# Altium schematic symbol library SCH - MCU - STM32 - ST MICROELECTRONICS STM32F051R8HX UFBGA64.SchLib: 1 symbol
Pins are listed as number, name and electrical type; pins without a type are passive.

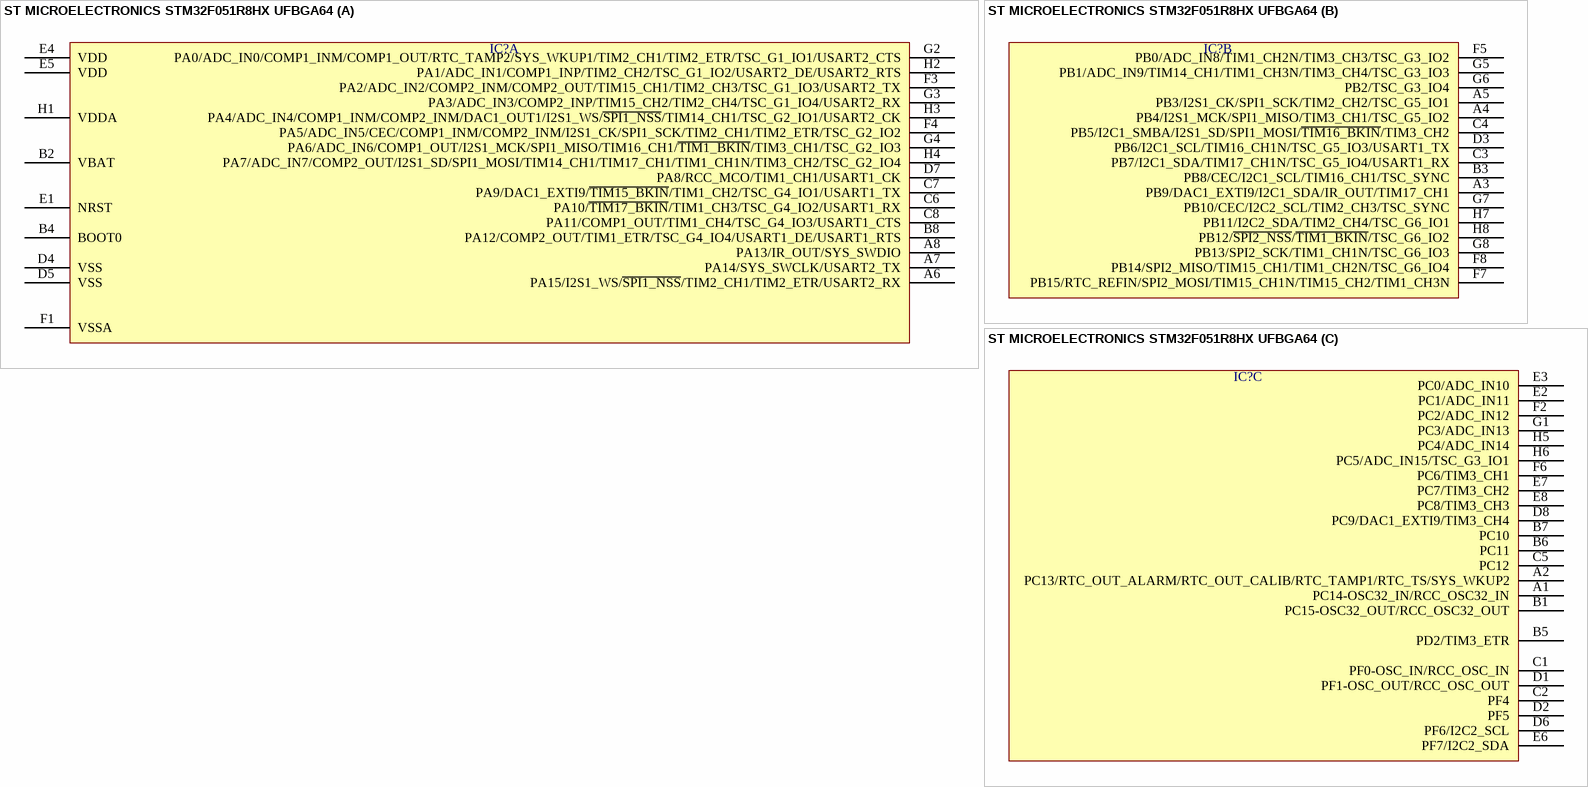
[diagram p0: symbol ST MICROELECTRONICS STM32F051R8HX UFBGA64]

## ST MICROELECTRONICS STM32F051R8HX UFBGA64
designator IC?  (value not drawn)
part A pins: A6 PA15/I2S1_WS/~{SPI1_NSS}/TIM2_CH1/TIM2_ETR/USART2_RX, A7 PA14/SYS_SWCLK/USART2_TX, A8 PA13/IR_OUT/SYS_SWDIO, B2 VBAT, B4 BOOT0, B8 PA12/COMP2_OUT/TIM1_ETR/TSC_G4_IO4/USART1_DE/USART1_RTS, C6 PA10/~{TIM17_BKIN}/TIM1_CH3/TSC_G4_IO2/USART1_RX, C7 PA9/DAC1_EXTI9/~{TIM15_BKIN}/TIM1_CH2/TSC_G4_IO1/USART1_TX, C8 PA11/COMP1_OUT/TIM1_CH4/TSC_G4_IO3/USART1_CTS, D4 VSS, D5 VSS, D7 PA8/RCC_MCO/TIM1_CH1/USART1_CK, E1 NRST, E4 VDD, E5 VDD, F1 VSSA, F3 PA2/ADC_IN2/COMP2_INM/COMP2_OUT/TIM15_CH1/TIM2_CH3/TSC_G1_IO3/USART2_TX, F4 PA5/ADC_IN5/CEC/COMP1_INM/COMP2_INM/I2S1_CK/SPI1_SCK/TIM2_CH1/TIM2_ETR/TSC_G2_IO2, G2 PA0/ADC_IN0/COMP1_INM/COMP1_OUT/RTC_TAMP2/SYS_WKUP1/TIM2_CH1/TIM2_ETR/TSC_G1_IO1/USART2_CTS, G3 PA3/ADC_IN3/COMP2_INP/TIM15_CH2/TIM2_CH4/TSC_G1_IO4/USART2_RX, G4 PA6/ADC_IN6/COMP1_OUT/I2S1_MCK/SPI1_MISO/TIM16_CH1/~{TIM1_BKIN}/TIM3_CH1/TSC_G2_IO3, H1 VDDA, H2 PA1/ADC_IN1/COMP1_INP/TIM2_CH2/TSC_G1_IO2/USART2_DE/USART2_RTS, H3 PA4/ADC_IN4/COMP1_INM/COMP2_INM/DAC1_OUT1/I2S1_WS/~{SPI1_NSS}/TIM14_CH1/TSC_G2_IO1/USART2_CK, H4 PA7/ADC_IN7/COMP2_OUT/I2S1_SD/SPI1_MOSI/TIM14_CH1/TIM17_CH1/TIM1_CH1N/TIM3_CH2/TSC_G2_IO4
part B pins: A3 PB9/DAC1_EXTI9/I2C1_SDA/IR_OUT/TIM17_CH1, A4 PB4/I2S1_MCK/SPI1_MISO/TIM3_CH1/TSC_G5_IO2, A5 PB3/I2S1_CK/SPI1_SCK/TIM2_CH2/TSC_G5_IO1, B3 PB8/CEC/I2C1_SCL/TIM16_CH1/TSC_SYNC, C3 PB7/I2C1_SDA/TIM17_CH1N/TSC_G5_IO4/USART1_RX, C4 PB5/I2C1_SMBA/I2S1_SD/SPI1_MOSI/~{TIM16_BKIN}/TIM3_CH2, D3 PB6/I2C1_SCL/TIM16_CH1N/TSC_G5_IO3/USART1_TX, F5 PB0/ADC_IN8/TIM1_CH2N/TIM3_CH3/TSC_G3_IO2, F7 PB15/RTC_REFIN/SPI2_MOSI/TIM15_CH1N/TIM15_CH2/TIM1_CH3N, F8 PB14/SPI2_MISO/TIM15_CH1/TIM1_CH2N/TSC_G6_IO4, G5 PB1/ADC_IN9/TIM14_CH1/TIM1_CH3N/TIM3_CH4/TSC_G3_IO3, G6 PB2/TSC_G3_IO4, G7 PB10/CEC/I2C2_SCL/TIM2_CH3/TSC_SYNC, G8 PB13/SPI2_SCK/TIM1_CH1N/TSC_G6_IO3, H7 PB11/I2C2_SDA/TIM2_CH4/TSC_G6_IO1, H8 PB12/~{SPI2_NSS}/~{TIM1_BKIN}/TSC_G6_IO2
part C pins: A1 PC14-OSC32_IN/RCC_OSC32_IN, A2 PC13/RTC_OUT_ALARM/RTC_OUT_CALIB/RTC_TAMP1/RTC_TS/SYS_WKUP2, B1 PC15-OSC32_OUT/RCC_OSC32_OUT, B5 PD2/TIM3_ETR, B6 PC11, B7 PC10, C1 PF0-OSC_IN/RCC_OSC_IN, C2 PF4, C5 PC12, D1 PF1-OSC_OUT/RCC_OSC_OUT, D2 PF5, D6 PF6/I2C2_SCL, D8 PC9/DAC1_EXTI9/TIM3_CH4, E2 PC1/ADC_IN11, E3 PC0/ADC_IN10, E6 PF7/I2C2_SDA, E7 PC7/TIM3_CH2, E8 PC8/TIM3_CH3, F2 PC2/ADC_IN12, F6 PC6/TIM3_CH1, G1 PC3/ADC_IN13, H5 PC4/ADC_IN14, H6 PC5/ADC_IN15/TSC_G3_IO1